# Altium schematic symbol library 5747840-6.SchLib: 1 symbol
Pins are listed as number, name and electrical type; pins without a type are passive.

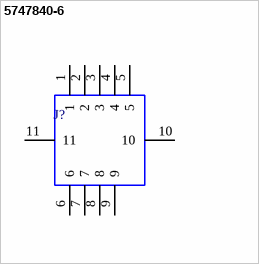
[diagram p0: symbol 5747840-6]

## 5747840-6
designator J?
9 way r/a PCB D plug w/screw lock,6A; Manufacturer_Name: TE Connectivity; Geometry.Height: 12.6mm; Mouser Part Number: 571-5747840-6; Mouser Price/Stock: https://www.mouser.co.uk/ProductDetail/TE-Connectivity/5747840-6?qs=x6EjVpvqMVN1FSGGZ1Dvpg%3D%3D; Manufacturer_Part_Number: 5747840-6; Datasheet Link: https://datasheet.datasheetarchive.com/originals/distributors/Datasheets_SAMA/6d328899bf3b4d94f3f5cd289f57cd42.pdf
footprint TE-5747840-6
pins: 1, 2, 3, 4, 5, 6, 7, 8, 9, 10, 11